# Altium schematic symbol library OPT3101RHFR.SchLib: 1 symbol
Pins are listed as number, name and electrical type; pins without a type are passive.

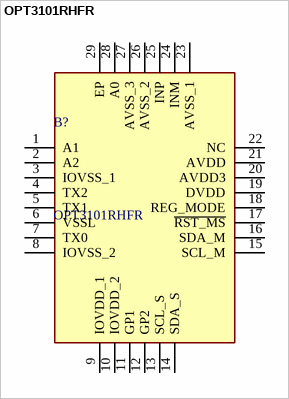
[diagram p0: symbol OPT3101RHFR]

## OPT3101RHFR
designator B?
ToF-Based Long-Range Proximity and Distance Sensor Analog Front End (AFE); Manufacturer_Name: Texas Instruments; Geometry.Height: 1mm; Manufacturer_Part_Number: OPT3101RHFR; Mouser Part Number: 595-OPT3101RHFR; Mouser Price/Stock: https://www.mouser.co.uk/ProductDetail/Texas-Instruments/OPT3101RHFR?qs=gTYE2QTfZfTvqHztJ29%252Bbg%3D%3D; Arrow Part Number: OPT3101RHFR; Arrow Price/Stock: https://www.arrow.com/en/products/opt3101rhfr/texas-instruments?region=nac; Datasheet Link: http://www.ti.com/lit/gpn/opt3101
footprint QFN50P400X500X100-29N-D
pins: 1 A1, 2 A2, 3 IOVSS_1, 4 TX2, 5 TX1, 6 VSSL, 7 TX0, 8 IOVSS_2, 9 IOVDD_1, 10 IOVDD_2, 11 GP1, 12 GP2, 13 SCL_S, 14 SDA_S, 15 SCL_M, 16 SDA_M, 17 ~{RST_MS}, 18 REG_MODE, 19 DVDD, 20 AVDD3, 21 AVDD, 22 NC, 23 AVSS_1, 24 INM, 25 INP, 26 AVSS_2, 27 AVSS_3, 28 A0, 29 EP